# Altium footprint library MAXIM SOT-143-4.PCBLIB: 1 footprints
Each footprint in its own frame and in the unit in brackets; x right, y up, seen from the top. Pads: shape width x height; smd on the part's side, far side on the other; paste and mask are expansions set on the pad; w line width, h text height; cw(c..) or ccw(c..) is an arc to the next point about the centre after c.
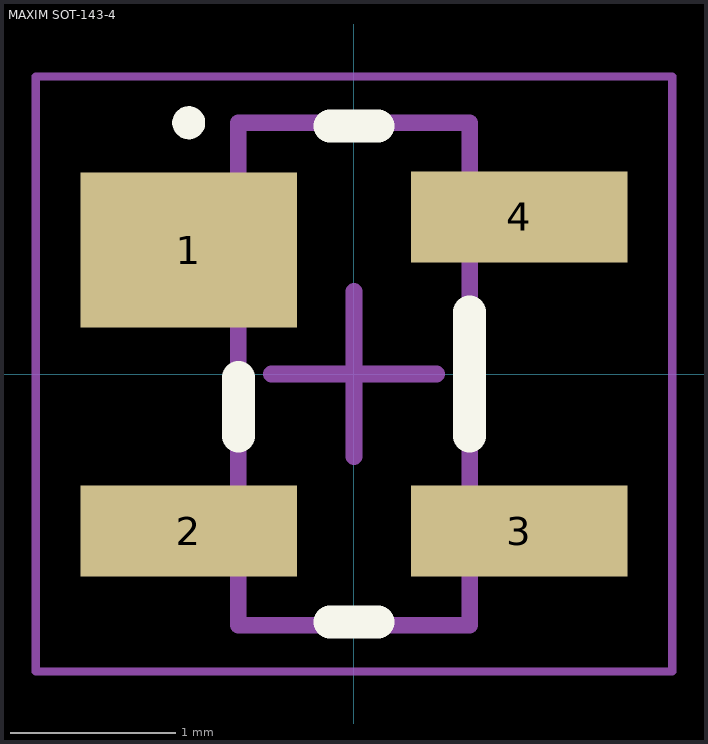
[diagram p0: the footprint, top view; thin cyan lines are the x and y axes]

## MAXIM SOT-143-4 [mm] "SOT143, 4-Leads, Body 2.92x2.37mm, Pitch 1.90mm, IPC Medium Density"
height 1.2
pads (4):
  rect 1.31x0.94 smd: 1(-1,0.75)
  rect 1.31x0.55 smd: 2(-1,-0.95) 3(1,-0.95) 4(1,0.95)
Top Overlay:
  circle w0.1: c-1,1.52 r0.05
  lines w0.2: -0.7,-0.375 -0.7,-0.02 ; -0.145,-1.5 0.145,-1.5 ; -0.145,1.5 0.145,1.5 ; 0.7,-0.375 0.7,0.375
Mechanical 13:
  lines w0.1: -0.7,-1.52 -0.7,1.52 0.7,1.52 0.7,-1.52 -0.7,-1.52
Mechanical 15:
  lines w0.05: -1.925,-1.8 -1.925,1.8 1.925,1.8 1.925,-1.8 -1.925,-1.8
  lines w0.1: -0.5,0 0.5,0 ; 0,-0.5 0,0.5
3D body "SOT-143-4.STEP": height 1.05, standoff 0, extent -1.189,-1.46 1.19,1.46